# EAGLE library part AD823 (library batterytester)
Dual, 16 MHz, Rail-to-Rail FET Input Amplifier AD823
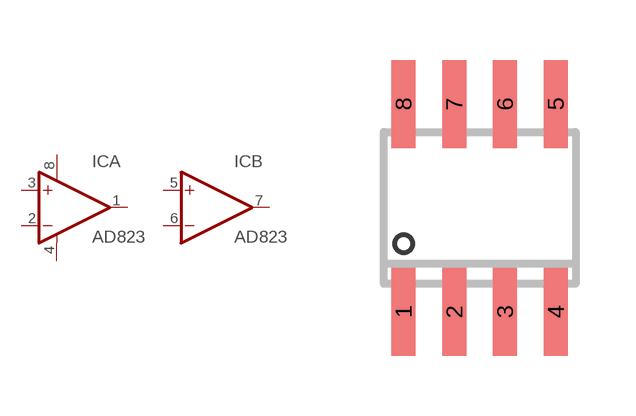
[diagram p0: symbol with the pads of SO8; footprint SO8]

Designator prefix IC; gates A=OP-AMP+- B=OP-AMP

## AD823  [SO8]
1  A:OUT  out
2  A:-IN  in
3  A:+IN  in
4  A:V-  pwr
5  B:+IN  in
6  B:-IN  in
7  B:OUT  out
8  A:V+  pwr

## Footprint SO8 (pad centres in mm)
8-Lead Small Outline IC (SO-8) Source: http://www.analog.com/UploadedFiles/Data_Sheets/703465986AD8611_2_0.pdf
smd 0.6 x 2.2: 1 -1.905,-2.6; 2 -0.635,-2.6; 3 0.635,-2.6; 4 1.905,-2.6; 5 1.905,2.6; 6 0.635,2.6; 7 -0.635,2.6; 8 -1.905,2.6